# EAGLE library part 750871111 (library WE-OLSTM)
WE-OLSTM Offline Flyback Transformers Characteristics Nominal input voltage: 85–265 VAC (120–375 VDC) Operating temperature: –40 °C to +125 °C Isolation voltage: 2 kVAC up to 5 kVAC Multiple output options Options for fixed frequency or quasi-resonant mode operation Most products meet reinforced insulation Applications Offline-switch mode power supplies Especially designed for several ICs from STMicroelectronics Auxiliary power supply Home appliances Consumer electronics <https://www.we-online.com/components/media/o781306v209%20FAMILY-MID-OLSTM.jpg> Details see: www.we-online.com/en/components/products/WE-OLSTM <www.we-online.com/en/components/products/WE-OLSTM/?utm_source=eagle_model&utm_medium=description_link&utm_campaign=eisos_eagle> Created by Leviosa 2024-04-15 2024(C) Wurth Elektronik
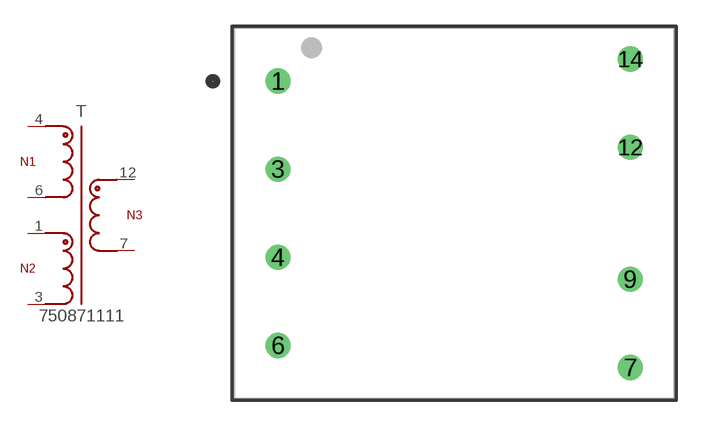
[diagram p13: symbol with the pads of WE-OLSTM_EE20_750871111; footprint WE-OLSTM_EE20_750871111]

Designator prefix T

## 750871111 (DATASHEET-URL: https://www.we-online.com/redexpert/spec/750871111?ae; FSWITCH: 60kHz; HEIGHT: 16mm; IOUT1: 2.4A; L: 1.7mH; LENGTH: 21mm; MOUNT: THT; N: 13.9:1:2.6; PART-NUMBER: 750871111; SIZE: EE20/10/6; VALUE: 750871111; VAUX: 12V; VIN: 85 - 272 V (AC); VOUT1: 5V; VT: 4000VAC; WIDTH: 25mm)  [WE-OLSTM_EE20_750871111]
1  1  pas
3  3  pas
4  4  pas
6  6  pas
7  7  pas
12  12  pas

## Footprint WE-OLSTM_EE20_750871111 (pad centres in mm)
WE-OLSTM Offline Flyback Transformers for STMicroelectronics Size: EE20, THT, 8Pins LXWXH=21X25X16mm
drill 0.92: 1 -10,7.5; 3 -10,2.5; 4 -10,-2.5; 6 -10,-7.5; 7 10,-8.75; 9 10,-3.75; 12 10,3.75; 14 10,8.75